# Altium footprint library CEM-1203(42).PcbLib: 1 footprints
Each footprint in its own frame and in the unit in brackets; x right, y up, seen from the top. Pads: shape width x height; smd on the part's side, far side on the other; paste and mask are expansions set on the pad; w line width, h text height; cw(c..) or ccw(c..) is an arc to the next point about the centre after c.
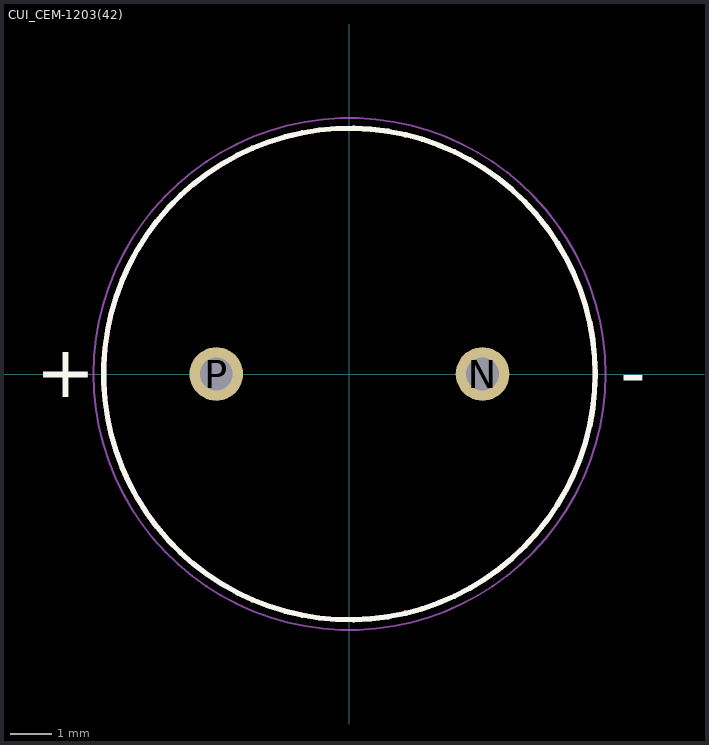
[diagram p0: the footprint, top view; thin cyan lines are the x and y axes]

## CUI_CEM-1203(42) [mm]
pads (2):
  round 1.308 hole 0.8: N(3.25,0) P(-3.25,0)
Top Overlay:
  circle w0.127: c0,0 r6
  text "+" at -7.655,-0.571 h1.27
  text "-" at 6.608,-0.571 h1.27
Mechanical 13:
  circle w0.127: c0,0 r6
Mechanical 15:
  circle w0.05: c0,0 r6.25
3D body "step_temp.STEP": height 8.5, standoff -5.5, extent -6,-6 6,6